# Altium footprint library 12-Filters FB.PcbLib: 64 footprints (part 2 of 4)
Each footprint in its own frame and in the unit in brackets; x right, y up, seen from the top. Pads: shape width x height; smd on the part's side, far side on the other; paste and mask are expansions set on the pad; w line width, h text height; cw(c..) or ccw(c..) is an arc to the next point about the centre after c.
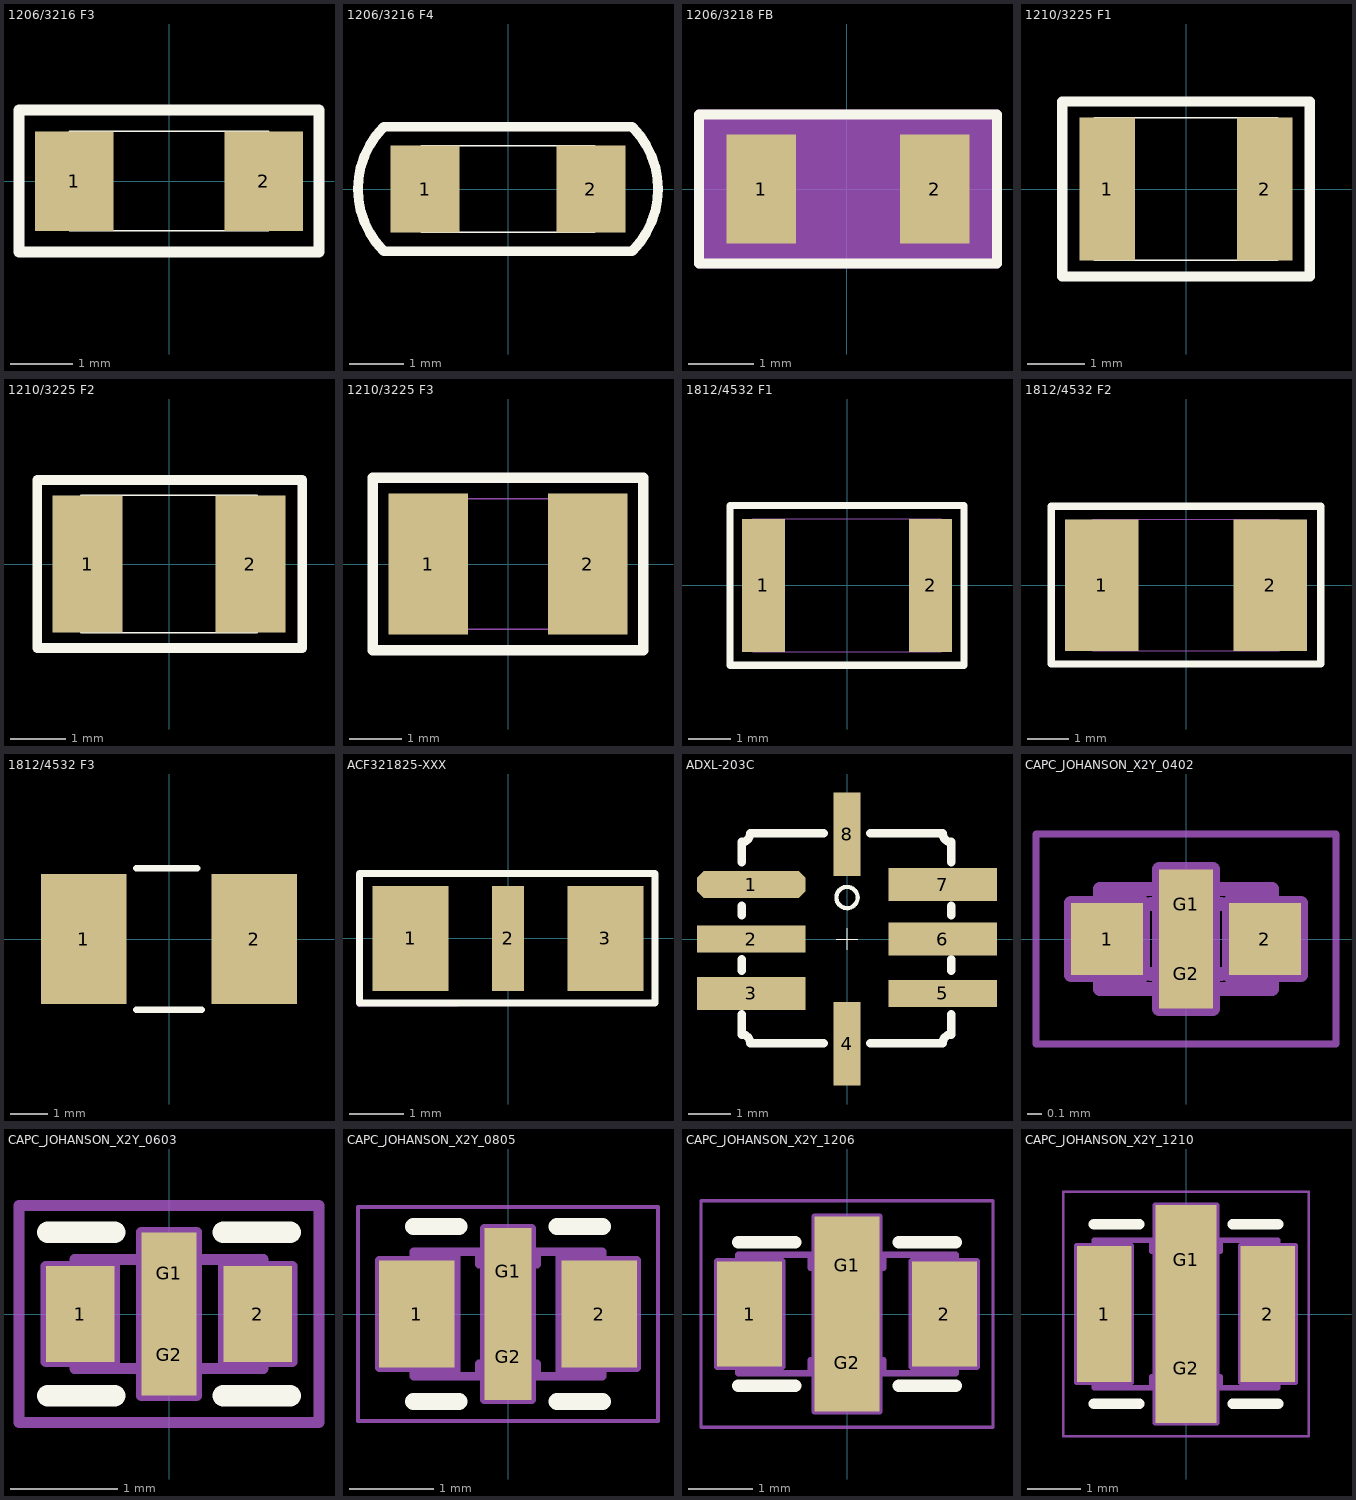
[diagram p1: the footprints below, top view; thin cyan lines are the x and y axes]

## 1206/3216 F3 [mil]
height 360.24
pads (2):
  rect 50x63 smd mask+2.76: 1(-60,0)
  rect 50x63 smd: 2(60,0)
Top Overlay:
  lines w1: -63,-31.5 -63,31.5 63,31.5 63,-31.5 -63,-31.5
  lines w7: -95,-45 -95,45 95,45 95,-45 -95,-45
3D body "1_6-1_27-1206a.stp": height 0.79, standoff 0, extent 35,-31.49 85,31.5
3D body "1_6-1_27-1206a.stp": height 0.79, standoff 0, extent -85,-31.49 -35,31.5
3D body "1206-vrt.stp": height 62.99, standoff 0, extent -63,-31.5 62.98,31.49

## 1206/3216 F4 [mil]
height 360.24
pads (2):
  rect 50x63 smd: 1(-60,0)
  rect 50x63 smd mask+2.76: 2(60,0)
Top Overlay:
  lines w1: -63,-31.5 63,-31.5 63,31.5 -63,31.5 -63,-31.5
  lines w7: -90,-45 90,-45 ; -90,45 90,45
  lines w7.01: -90,-45 cw(c-45,0) -90,45 ; 90,-45 ccw(c45,0) 90,45
3D body "1206-vrt.stp": height 62.99, standoff 0, extent -62.5,-31.5 63.48,31.49
3D body "1_6-1_27-1206a.stp": height 0.79, standoff 0, extent -85,-31.49 -35,31.5
3D body "1_6-1_27-1206a.stp": height 0.79, standoff 0, extent 35,-31.49 85,31.5

## 1206/3218 FB [mil]
height 360.24
pads (2):
  rect 42x66 smd: 1(-51.85,0) 2(53.15,0)
Top Overlay:
  lines w6: -89.35,-45 15.65,-45 90.65,-45 90.65,45 15.65,45 -89.35,45 -89.35,-45
Mechanical 6:
  lines w6: -89.35,-45 15.65,-45 90.65,-45 90.65,45 15.65,45 -89.35,45 -89.35,-45
Mechanical 16:
  region: -90.55,45 90.55,45 90.55,-45 -90.55,-45
  lines w1: -62.35,-31.5 63.65,-31.5 63.65,31.5 -62.35,31.5 -62.35,-31.5
Mechanical 18:
  text "2" at 53.15,-10 h25
  text "1" at -51.85,-10 h25
3D body "1206-vrt.stp": height 62.99, standoff 0, extent -62.99,-31.5 62.99,31.5
3D body "1206-earm.stp": height 0.04, standoff 0, extent 31.5,-33.07 74.8,33.07
3D body "1206-earm.stp": height 0.04, standoff 0, extent -73.5,-33.07 -30.2,33.07

## 1210/3225 F1 [mil]
height 360.24
pads (2):
  rect 38x98 smd: 1(-54,0)
  rect 38x98 smd mask+2.76: 2(54,0)
Top Overlay:
  lines w1: -63,-49 -63,49 63,49 63,-49 -63,-49
  lines w7: -85,-60 85,-60 85,60 -85,60 -85,-60
3D body "0_965-2_489-1210.stp": height 0.79, standoff 0, extent 35.01,-48.99 73,49
3D body "0_965-2_489-1210.stp": height 0.79, standoff 0, extent -73.49,-48.99 -35.5,49
3D body "1210-vrt.stp": height 98.43, standoff 0, extent -63,-49 62.98,49.43

## 1210/3225 F2 [mil]
height 360.24
pads (2):
  rect 50x98 smd mask+2.76: 1(-58,0)
  rect 50x98 smd: 2(58,0)
Top Overlay:
  lines w1: -63,-49 63,-49 63,49 -63,49 -63,-49
  lines w7: -94,-60 -94,60 95,60 95,-60 -94,-60
3D body "1210-vrt.stp": height 98.43, standoff 0, extent -63,-49 62.98,49.43
3D body "1_27-2_489-1210a.stp": height 0.79, standoff 0, extent -83,-48.99 -33,49
3D body "1_27-2_489-1210a.stp": height 0.79, standoff 0, extent 33,-48.99 83,49

## 1210/3225 F3 [mil]
height 360.24
pads (2):
  rect 60x106 smd mask+2.76: 1(-60,0)
  rect 60x106 smd: 2(60,0)
Top Overlay:
  lines w7.87: -102,-65 102,-65 102,65 -102,65 -102,-65
Mechanical 15:
  lines w1: -63,-49 -63,49 63,49 63,-49 -63,-49
3D body "1210-1_5.stp": height 59.06, standoff 0, extent -62.99,-49.21 62.99,49.21
3D body "1_524-2_692-1210c.stp": height 0.79, standoff 0, extent -90,-52.99 -30,53
3D body "1_524-2_692-1210c.stp": height 0.79, standoff 0, extent 30,-52.99 90,53

## 1812/4532 F1 [mil]
height 360.24
pads (2):
  rect 40x125 smd mask+2.76: 1(-78.5,0)
  rect 40x125 smd: 2(78.5,0)
Top Overlay:
  lines w7: -110,-75 110,-75 110,75 -110,75 -110,-75
Mechanical 16:
  lines w1: -88.5,-62.5 -88.5,62.5 88.5,62.5 88.5,-62.5 -88.5,-62.5
3D body "3_175-1_016-1812.stp": height 0.79, standoff 0, extent 58.5,-62.5 98.5,62.5
3D body "3_175-1_016-1812.stp": height 0.79, standoff 0, extent -98.5,-62.5 -58.5,62.5
3D body "1812-vrt.stp": height 125.98, standoff 0, extent -88.58,-63 88.58,62.98

## 1812/4532 F2 [mil]
height 360.24
pads (2):
  rect 70x125 smd: 1(-80,0)
  rect 70x125 smd mask+2.76: 2(80,0)
Top Overlay:
  lines w7: -128,-75 -128,75 128,75 128,-75 -128,-75
Mechanical 16:
  lines w1: -88.5,-62.5 88.5,-62.5 88.5,62.5 -88.5,62.5 -88.5,-62.5
3D body "3_175-1_778-1812.stp": height 0.79, standoff 0, extent 44.5,-63 114.5,62
3D body "3_175-1_778-1812.stp": height 0.79, standoff 0, extent -115,-62.5 -45,62.5
3D body "1812-vrt.stp": height 125.98, standoff 0, extent -88.58,-63 88.58,62.98

## 1812/4532 F3 [mm]
height 9.15
pads (2):
  rect 2.3x3.5 smd: 1(-2.3,0)
  rect 2.3x3.5 smd mask+0.07: 2(2.3,0)
Top Overlay:
  lines w0.178: -0.889,-1.905 0.889,-1.905 ; -0.889,1.905 0.762,1.905
3D body "3_5-2_3-1812.stp": height 0.02, standoff 0, extent 1.149,-1.75 3.449,1.75
3D body "3_5-2_3-1812.stp": height 0.02, standoff 0, extent -3.474,-1.75 -1.174,1.75
3D body "1812-vrt.stp": height 3.2, standoff 0, extent -2.25,-1.6 2.25,1.6

## ACF321825-XXX [mm] "TDK"
height 9.15
pads (3):
  rect 1.4x1.94 smd: 1(-1.8,0) 3(1.8,0)
  rect 0.6x1.94 smd: 2(0,0)
Top Overlay:
  lines w0.127: -2.743,-1.194 -2.743,1.194 2.718,1.194 2.718,-1.194 -2.743,-1.194
Mechanical 15:
  lines w0.1: -2.743,-1.168 -2.743,1.168 ; -2.743,1.168 2.718,1.193 2.718,-1.194 -2.743,-1.219 -2.743,1.168
3D body "acf451832-xxx.stp": height 3.2, standoff 0, extent -2.25,-0.9 2.25,0.9

## ADXL-203C [mil]
height 360.24
pads (8):
  oct 102x25.59 smd: 1(-90,51.18)
  rect 102x25.59 smd: 2(-90,0) 5(90,-51.18)
  rect 102x31 smd: 3(-90,-51.18) 6(90,0) 7(90,51.18)
  rect 25.59x78.74 smd: 4(0,-98.43) 8(0,98.43)
Top Overlay:
  circle w4: c0,39 r10
  lines w1: -10,0 10,0 ; 0,-10 0,10
  lines w8: -99,-70.82 -99,-89.82 cw(c-99,-97.82) -91,-97.82 -22,-97.82 ; -99,-29.82 -99,-18.82 ; -99,22.18 -99,31.18 ; -99,72.18 -99,91.18 ccw(c-99,99.18) -91,99.18 -22,99.18 ; 22,-97.82 90,-97.82 cw(c98,-97.82) 98,-89.82 98,-70.82 ; 22,99.18 90,99.18 ccw(c98,99.18) 98,91.18 98,72.18 ; 98,-29.82 98,-18.82 ; 98,22.18 98,31.18
3D body "lcc_5x5x1_95-p8.stp": height 75.98, standoff -0.12, extent -98,-97 98.85,99.85

## CAPC_JOHANSON_X2Y_0402 [mm] "EMIFIL Chip Capacitor, Body 1.143x0.635mm, JOHANSON 0402 (X017) Case"
height 0.66
pads (4):
  rect 0.51x0.51 smd: 1(-0.56,0) 2(0.56,0)
  rect 0.38x0.495 smd: G1(0,0.248) G2(0,-0.248)
Mechanical 8:
  lines w0.1: -0.81,0 -0.56,0 ; -0.56,-0.25 -0.56,0 ; -0.56,0.25 -0.56,0 ; -0.31,0 -0.56,0 ; -0.25,-0.248 0,-0.248 ; -0.25,0.248 0,0.248 0.25,0.248 ; -0.19,0 0,0 ; -0.177,-0.177 0,0 ; -0.177,0.177 0,0 ; 0,-0.497 0,-0.248 ; 0,0.245 0,0.495 ; 0.177,-0.177 0,0 ; 0.177,0.177 0,0 ; 0.19,0 0,0 ; 0.25,-0.248 0,-0.248 ; 0.31,0 0.56,0 ; 0.56,-0.25 0.56,0 ; 0.56,0.25 0.56,0 ; 0.81,0 0.56,0 ; -0.815,-0.255 -0.815,0.255 -0.305,0.255 -0.305,-0.255 -0.815,-0.255 ; -0.19,-0.495 0.19,-0.495 0.19,0.495 -0.19,0.495 -0.19,-0.495 ; 0.305,-0.255 0.305,0.255 0.815,0.255 0.815,-0.255 0.305,-0.255
Mechanical 14:
  lines w0.1: -0.33,-0.356 -0.33,0.356 ; -0.191,-0.356 -0.191,-0.256 0.191,-0.256 0.191,-0.356 ; -0.191,0.356 -0.191,0.256 0.191,0.256 0.191,0.356 ; 0.33,-0.356 0.33,0.356 ; -0.61,-0.356 0.61,-0.356 ; -0.61,-0.356 -0.61,0.356 ; -0.61,-0.356 -0.61,0.356 ; -0.61,0.356 0.61,0.356 ; 0.61,-0.356 0.61,0.356 ; 0.61,-0.356 0.61,0.356
Mechanical 15:
  lines w0.05: -1.065,-0.745 -1.065,0.745 1.065,0.745 1.065,-0.745 -1.065,-0.745
3D body "CAPC_JOHANSON_X2Y_0402.stp": height 0.51, standoff 0, extent -0.61,-0.356 0.61,0.356

## CAPC_JOHANSON_X2Y_0603 [mm] "EMIFIL Chip Capacitor, Body 1.626x0.889mm, JOHANSON 0603 (X14) Case"
height 0.66
pads (4):
  rect 0.64x0.89 smd: 1(-0.825,0) 2(0.825,0)
  rect 0.51x0.76 smd: G1(0,0.38) G2(0,-0.38)
Top Overlay:
  lines w0.2: -1.127,-0.758 -0.505,-0.758 ; -1.127,0.758 -0.505,0.758 ; 0.505,-0.758 1.127,-0.758 ; 0.505,0.758 1.127,0.758
Mechanical 8:
  lines w0.1: -1.075,0 -0.825,0 ; -0.825,-0.25 -0.825,0 ; -0.825,0.25 -0.825,0 ; -0.575,0 -0.825,0 ; -0.25,0 0,0 ; 0,-0.25 0,0 ; 0,0.25 0,0 ; 0.25,0 0,0 ; 0.575,0 0.825,0 ; 0.825,-0.25 0.825,0 ; 0.825,0.25 0.825,0 ; 1.075,0 0.825,0 ; -1.145,-0.445 -0.505,-0.445 -0.505,0.445 -1.145,0.445 -1.145,-0.445 ; -0.255,-0.76 -0.255,0.76 0.255,0.76 0.255,-0.76 -0.255,-0.76 ; 0.505,-0.445 1.145,-0.445 1.145,0.445 0.505,0.445 0.505,-0.445
Mechanical 14:
  lines w0.1: -0.559,-0.508 -0.559,0.508 ; -0.229,-0.508 -0.229,-0.318 0.229,-0.318 0.229,-0.508 ; -0.229,0.508 -0.229,0.318 0.229,0.318 0.229,0.508 ; 0.559,-0.508 0.559,0.508 ; -0.877,-0.508 0.877,-0.508 0.877,0.508 -0.877,0.508 -0.877,-0.508
Mechanical 15:
  lines w0.1: -1.395,-1.01 -1.395,1.01 1.395,1.01 1.395,-1.01 -1.395,-1.01
3D body "CCAPC_JOHANSON_X2Y_0603.stp": height 0.66, standoff 0, extent -0.813,-0.444 0.813,0.445

## CAPC_JOHANSON_X2Y_0805 [mm] "EMIFIL Chip Capacitor, Body 2.032x1.27mm, JOHANSON 0805 (X15) Case"
height 1.016
pads (4):
  rect 0.89x1.27 smd: 1(-1.08,0) 2(1.08,0)
  rect 0.56x1.015 smd: G1(0,0.507) G2(0,-0.507)
Top Overlay:
  lines w0.2: -1.118,-1.037 -0.58,-1.037 ; -1.118,1.037 -0.58,1.037 ; 0.58,-1.037 1.118,-1.037 ; 0.58,1.037 1.118,1.037
Mechanical 8:
  lines w0.1: -1.33,0 -1.08,0 ; -1.08,-0.25 -1.08,0 ; -1.08,0.25 -1.08,0 ; -0.83,0 -1.08,0 ; -0.28,0 0.28,0 ; -0.25,-0.507 0,-0.507 ; -0.25,0 0,0 ; -0.25,0.507 0,0.507 ; 0,-0.758 0,-0.507 ; 0,-0.25 0,0 ; 0,0.25 0,0 ; 0,0.758 0,0.507 ; 0.25,-0.507 0,-0.507 ; 0.25,0 0,0 ; 0.25,0.507 0,0.507 ; 0.83,0 1.08,0 ; 1.08,-0.25 1.08,0 ; 1.08,0.25 1.08,0 ; 1.33,0 1.08,0 ; -1.525,-0.635 -0.635,-0.635 -0.635,0.635 -1.525,0.635 -1.525,-0.635 ; -0.28,-1.015 -0.28,1.015 0.28,1.015 0.28,-1.015 -0.28,-1.015 ; 0.635,-0.635 1.525,-0.635 1.525,0.635 0.635,0.635 0.635,-0.635
Mechanical 14:
  lines w0.1: -0.61,-0.737 -0.61,0.737 ; -0.343,-0.737 -0.343,-0.587 0.343,-0.587 0.343,-0.737 ; -0.343,0.737 -0.343,0.587 0.343,0.587 0.343,0.737 ; 0.61,-0.737 0.61,0.737 ; -1.118,-0.737 -1.118,0.737 ; -1.118,-0.737 -1.118,0.737 ; -1.118,-0.737 1.118,-0.737 ; -1.118,0.737 1.118,0.737 ; 1.118,-0.737 1.118,0.737 ; 1.118,-0.737 1.118,0.737
Mechanical 15:
  lines w0.05: -1.775,-1.265 -1.775,1.265 1.775,1.265 1.775,-1.265 -1.775,-1.265
3D body "CAPC_JOHANSON_X2Y_0805.stp": height 1.02, standoff 0, extent -1.117,-0.736 1.118,0.737

## CAPC_JOHANSON_X2Y_1206 [mm] "EMIFIL Chip Capacitor, Body 3.15x1.6mm, JOHANSON 1206 (X18) Case"
height 1.27
pads (4):
  rect 1.02x1.65 smd: 1(-1.525,0) 2(1.525,0)
  rect 1.02x1.525 smd: G1(0,0.763) G2(0,-0.763)
Top Overlay:
  lines w0.2: -1.702,-1.125 -0.81,-1.125 ; -1.702,1.125 -0.81,1.125 ; 0.81,-1.125 1.702,-1.125 ; 0.81,1.125 1.702,1.125
Mechanical 8:
  lines w0.1: -1.775,0 -1.525,0 ; -1.525,-0.25 -1.525,0 ; -1.525,0.25 -1.525,0 ; -1.275,0 -1.525,0 ; -0.51,0 0.51,0 ; -0.25,-0.763 0,-0.763 ; -0.25,0.763 0,0.763 ; -0.177,-0.177 0,0 ; -0.177,0.177 0,0 ; 0,-1.012 0,-0.763 ; 0,-0.513 0,-0.763 ; 0,0.513 0,0.763 ; 0,1.012 0,0.763 ; 0.177,-0.177 0,0 ; 0.177,0.177 0,0 ; 0.25,-0.763 0,-0.763 ; 0.25,0.763 0,0.763 ; 1.275,0 1.525,0 ; 1.525,-0.25 1.525,0 ; 1.525,0.25 1.525,0 ; 1.775,0 1.525,0 ; -2.035,-0.825 -1.015,-0.825 -1.015,0.825 -2.035,0.825 -2.035,-0.825 ; -0.51,-1.525 -0.51,1.525 0.51,1.525 0.51,-1.525 -0.51,-1.525 ; 1.015,-0.825 2.035,-0.825 2.035,0.825 1.015,0.825 1.015,-0.825
Mechanical 14:
  lines w0.1: -1.042,-0.927 -1.042,0.927 ; -0.572,-0.927 -0.572,-0.727 0.572,-0.727 0.572,-0.927 ; -0.572,0.927 -0.572,0.727 0.572,0.727 0.572,0.927 ; 1.042,-0.927 1.042,0.927 ; -1.702,-0.927 -1.702,0.927 ; -1.702,-0.927 -1.702,0.927 ; -1.702,-0.927 1.702,-0.927 ; -1.702,0.927 1.702,0.927 ; 1.702,-0.927 1.702,0.927 ; 1.702,-0.927 1.702,0.927
Mechanical 15:
  lines w0.05: -2.285,-1.775 2.285,-1.775 2.285,1.775 -2.285,1.775 -2.285,-1.775
3D body "CAPC_JOHANSON_X2Y_1206.stp": height 1.27, standoff 0, extent -1.702,-0.927 1.702,0.927

## CAPC_JOHANSON_X2Y_1210 [mm] "EMIFIL Chip Capacitor, Body 3.175x2.489mm, JOHANSON 1210 (X41) Case"
height 1.778
pads (4):
  rect 1.02x2.54 smd: 1(-1.525,0) 2(1.525,0)
  rect 1.14x2.03 smd: G1(0,1.015) G2(0,-1.015)
Top Overlay:
  lines w0.2: -1.714,-1.672 -0.87,-1.672 ; -1.714,1.672 -0.87,1.672 ; 0.87,-1.672 1.714,-1.672 ; 0.87,1.672 1.714,1.672
Mechanical 8:
  lines w0.1: -1.775,0 -1.525,0 ; -1.525,-0.25 -1.525,0 ; -1.525,0.25 -1.525,0 ; -1.275,0 -1.525,0 ; -0.57,0 0.57,0 ; -0.25,-1.015 0,-1.015 ; -0.25,1.015 0,1.015 ; -0.177,-0.177 0,0 ; -0.177,0.177 0,0 ; 0,-1.265 0,-1.015 ; 0,-0.765 0,-1.015 ; 0,0.765 0,1.015 ; 0,1.265 0,1.015 ; 0.177,-0.177 0,0 ; 0.177,0.177 0,0 ; 0.25,-1.015 0,-1.015 ; 0.25,1.015 0,1.015 ; 1.275,0 1.525,0 ; 1.525,-0.25 1.525,0 ; 1.525,0.25 1.525,0 ; 1.775,0 1.525,0 ; -2.035,-1.27 -1.015,-1.27 -1.015,1.27 -2.035,1.27 -2.035,-1.27 ; -0.57,-2.03 -0.57,2.03 0.57,2.03 0.57,-2.03 -0.57,-2.03 ; 1.015,-1.27 2.035,-1.27 2.035,1.27 1.015,1.27 1.015,-1.27
Mechanical 14:
  lines w0.1: -0.635,-1.372 -0.635,-1.172 0.635,-1.172 0.635,-1.372 ; -0.635,1.372 -0.635,1.172 0.635,1.172 0.635,1.372 ; -1.714,-1.372 -1.714,1.372 1.714,1.372 1.714,-1.372 -1.714,-1.372
Mechanical 15:
  lines w0.05: -2.285,-2.28 2.285,-2.28 2.285,2.28 -2.285,2.28 -2.285,-2.28
3D body "CAPC_JOHANSON_X2Y_1210.stp": height 1.78, standoff 0, extent -1.714,-1.371 1.715,1.372